# Altium footprint library Connector_PinHeader_2.54mm.PcbLib: 278 footprints (part 17 of 18)
Each footprint in its own frame and in the unit in brackets; x right, y up, seen from the top. Pads: shape width x height; smd on the part's side, far side on the other; paste and mask are expansions set on the pad; w line width, h text height; cw(c..) or ccw(c..) is an arc to the next point about the centre after c.
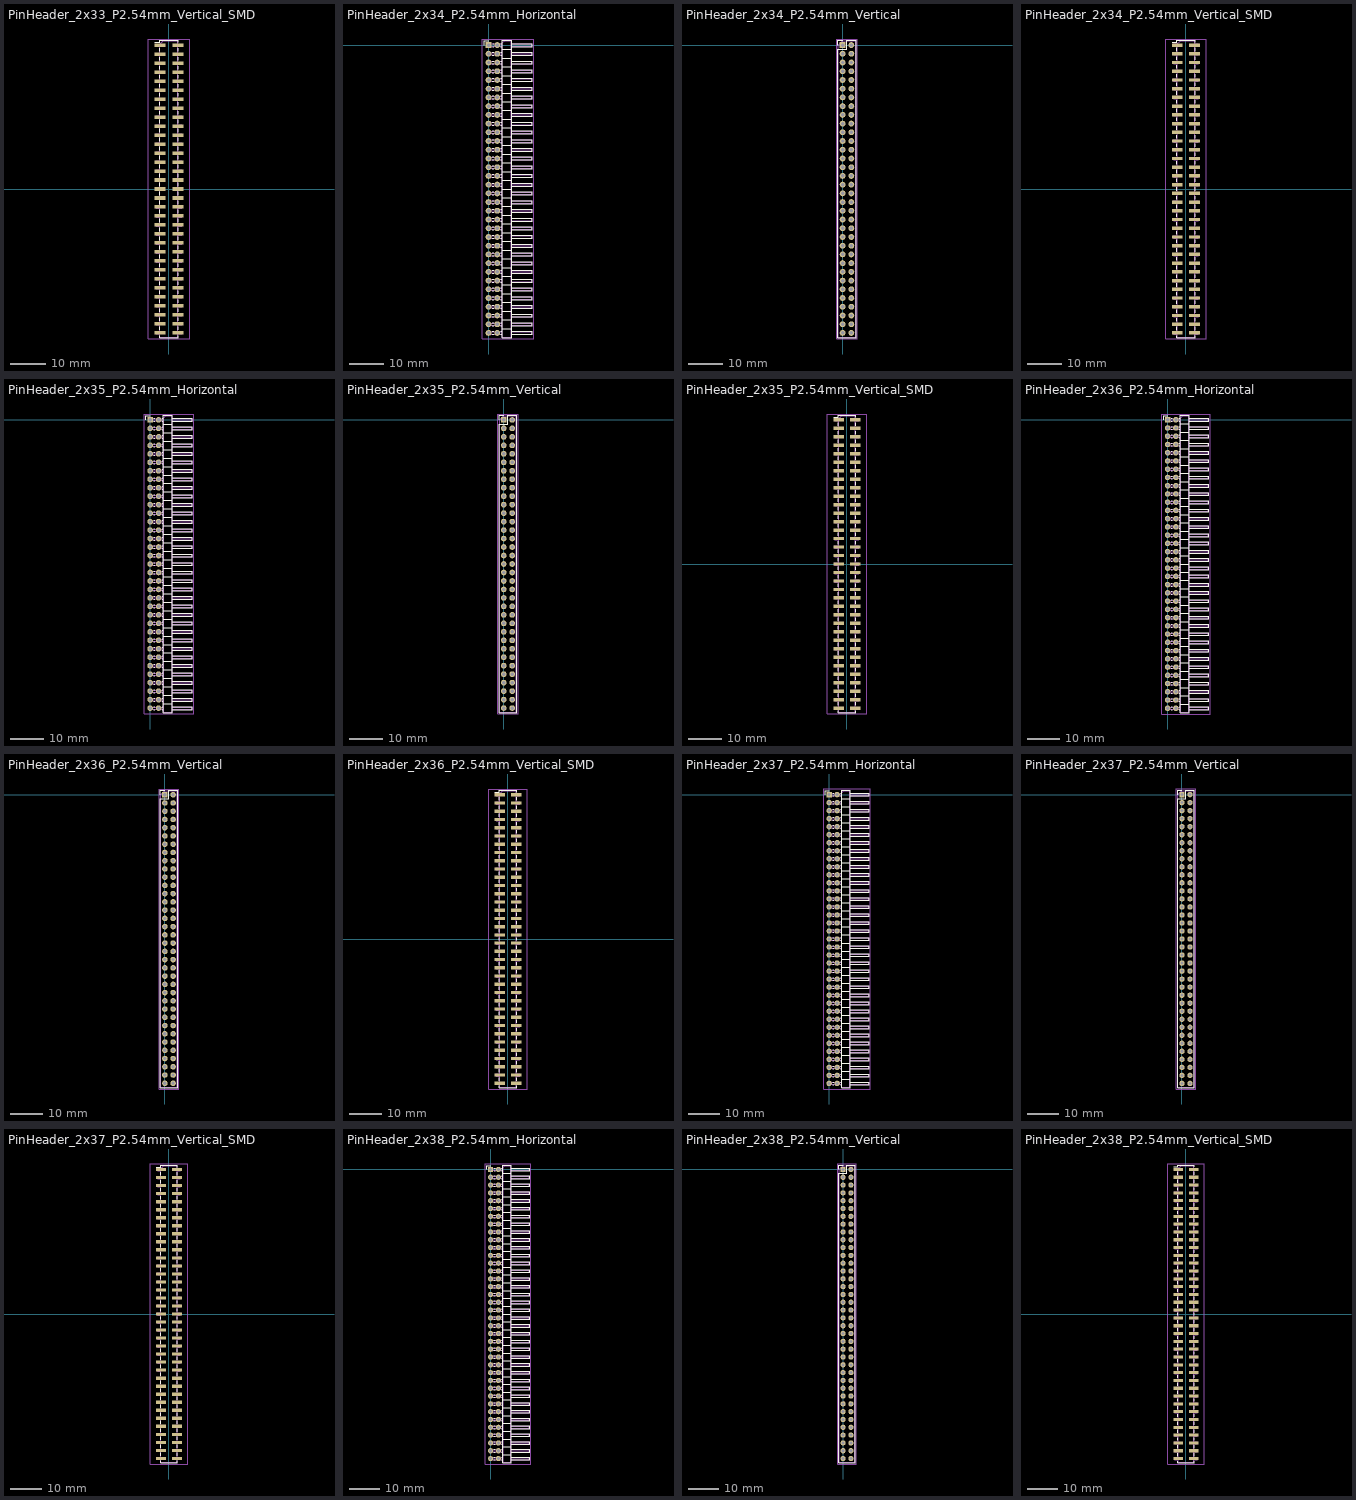
[diagram p16: the footprints below, top view; thin cyan lines are the x and y axes]

## PinHeader_2x33_P2.54mm_Vertical_SMD [mm]
pads (66):
  rect 3.15x1 smd: 1(-2.525,40.64) 2(2.525,40.64) 3(-2.525,38.1) 4(2.525,38.1) 5(-2.525,35.56) 6(2.525,35.56) 7(-2.525,33.02) 8(2.525,33.02) 9(-2.525,30.48) 10(2.525,30.48) 11(-2.525,27.94) 12(2.525,27.94) 13(-2.525,25.4) 14(2.525,25.4) 15(-2.525,22.86) 16(2.525,22.86) 17(-2.525,20.32) 18(2.525,20.32) 19(-2.525,17.78) 20(2.525,17.78) 21(-2.525,15.24) 22(2.525,15.24) 23(-2.525,12.7) 24(2.525,12.7) 25(-2.525,10.16) 26(2.525,10.16) 27(-2.525,7.62) 28(2.525,7.62) 29(-2.525,5.08) 30(2.525,5.08) 31(-2.525,2.54) 32(2.525,2.54) 33(-2.525,0) 34(2.525,0) 35(-2.525,-2.54) 36(2.525,-2.54) 37(-2.525,-5.08) 38(2.525,-5.08) 39(-2.525,-7.62) 40(2.525,-7.62) 41(-2.525,-10.16) 42(2.525,-10.16) 43(-2.525,-12.7) 44(2.525,-12.7) 45(-2.525,-15.24) 46(2.525,-15.24) 47(-2.525,-17.78) 48(2.525,-17.78) 49(-2.525,-20.32) 50(2.525,-20.32) 51(-2.525,-22.86) 52(2.525,-22.86) 53(-2.525,-25.4) 54(2.525,-25.4) 55(-2.525,-27.94) 56(2.525,-27.94) 57(-2.525,-30.48) 58(2.525,-30.48) 59(-2.525,-33.02) 60(2.525,-33.02) 61(-2.525,-35.56) 62(2.525,-35.56) 63(-2.525,-38.1) 64(2.525,-38.1) 65(-2.525,-40.64) 66(2.525,-40.64)
F.SilkS:
  lines w0.254: -4.04,41.45 -2.65,41.45 -2.65,42.02 2.65,42.02 2.65,41.45 ; -2.65,-41.45 -2.65,-42.02 2.65,-42.02 2.65,-41.45 ; -2.65,-39.83 -2.65,-38.91 ; -2.65,-37.29 -2.65,-36.37 ; -2.65,-34.75 -2.65,-33.83 ; -2.65,-32.21 -2.65,-31.29 ; -2.65,-29.67 -2.65,-28.75 ; -2.65,-27.13 -2.65,-26.21 ; -2.65,-24.59 -2.65,-23.67 ; -2.65,-22.05 -2.65,-21.13 ; -2.65,-19.51 -2.65,-18.59 ; -2.65,-16.97 -2.65,-16.05 ; -2.65,-14.43 -2.65,-13.51 ; -2.65,-11.89 -2.65,-10.97 ; -2.65,-9.35 -2.65,-8.43 ; -2.65,-6.81 -2.65,-5.89 ; -2.65,-4.27 -2.65,-3.35 ; -2.65,-1.73 -2.65,-0.81 ; -2.65,0.81 -2.65,1.73 ; -2.65,3.35 -2.65,4.27 ; -2.65,5.89 -2.65,6.81 ; -2.65,8.43 -2.65,9.35 ; -2.65,10.97 -2.65,11.89 ; -2.65,13.51 -2.65,14.43 ; -2.65,16.05 -2.65,16.97 ; -2.65,18.59 -2.65,19.51 ; -2.65,21.13 -2.65,22.05 ; -2.65,23.67 -2.65,24.59 ; -2.65,26.21 -2.65,27.13 ; -2.65,28.75 -2.65,29.67 ; -2.65,31.29 -2.65,32.21 ; -2.65,33.83 -2.65,34.75 ; -2.65,36.37 -2.65,37.29 ; -2.65,38.91 -2.65,39.83 ; 2.65,-39.83 2.65,-38.91 ; 2.65,-37.29 2.65,-36.37 ; 2.65,-34.75 2.65,-33.83 ; 2.65,-32.21 2.65,-31.29 ; 2.65,-29.67 2.65,-28.75 ; 2.65,-27.13 2.65,-26.21 ; 2.65,-24.59 2.65,-23.67 ; 2.65,-22.05 2.65,-21.13 ; 2.65,-19.51 2.65,-18.59 ; 2.65,-16.97 2.65,-16.05 ; 2.65,-14.43 2.65,-13.51 ; 2.65,-11.89 2.65,-10.97 ; 2.65,-9.35 2.65,-8.43 ; 2.65,-6.81 2.65,-5.89 ; 2.65,-4.27 2.65,-3.35 ; 2.65,-1.73 2.65,-0.81 ; 2.65,0.81 2.65,1.73 ; 2.65,3.35 2.65,4.27 ; 2.65,5.89 2.65,6.81 ; 2.65,8.43 2.65,9.35 ; 2.65,10.97 2.65,11.89 ; 2.65,13.51 2.65,14.43 ; 2.65,16.05 2.65,16.97 ; 2.65,18.59 2.65,19.51 ; 2.65,21.13 2.65,22.05 ; 2.65,23.67 2.65,24.59 ; 2.65,26.21 2.65,27.13 ; 2.65,28.75 2.65,29.67 ; 2.65,31.29 2.65,32.21 ; 2.65,33.83 2.65,34.75 ; 2.65,36.37 2.65,37.29 ; 2.65,38.91 2.65,39.83
Top Assembly:
  drawing of 203 lines, arcs and shapes, not listed
  text "'.Designator'" at 0.84,-4.047 h1
Top Courtyard:
  lines w0.254: -5.87,-42.41 5.88,-42.41 5.88,42.41 -5.87,42.41 -5.87,-42.41
Top Designator:
  text ".Designator" at -7.613,-0.508 h1.52

## PinHeader_2x34_P2.54mm_Horizontal [mm]
pads (68):
  rect 1.7x1.7 hole 1: 1(0,0)
  round 1.7 hole 1: 2(2.54,0) 3(0,-2.54) 4(2.54,-2.54) 5(0,-5.08) 6(2.54,-5.08) 7(0,-7.62) 8(2.54,-7.62) 9(0,-10.16) 10(2.54,-10.16) 11(0,-12.7) 12(2.54,-12.7) 13(0,-15.24) 14(2.54,-15.24) 15(0,-17.78) 16(2.54,-17.78) 17(0,-20.32) 18(2.54,-20.32) 19(0,-22.86) 20(2.54,-22.86) 21(0,-25.4) 22(2.54,-25.4) 23(0,-27.94) 24(2.54,-27.94) 25(0,-30.48) 26(2.54,-30.48) 27(0,-33.02) 28(2.54,-33.02) 29(0,-35.56) 30(2.54,-35.56) 31(0,-38.1) 32(2.54,-38.1) 33(0,-40.64) 34(2.54,-40.64) 35(0,-43.18) 36(2.54,-43.18) 37(0,-45.72) 38(2.54,-45.72) 39(0,-48.26) 40(2.54,-48.26) 41(0,-50.8) 42(2.54,-50.8) 43(0,-53.34) 44(2.54,-53.34) 45(0,-55.88) 46(2.54,-55.88) 47(0,-58.42) 48(2.54,-58.42) 49(0,-60.96) 50(2.54,-60.96) 51(0,-63.5) 52(2.54,-63.5) 53(0,-66.04) 54(2.54,-66.04) 55(0,-68.58) 56(2.54,-68.58) 57(0,-71.12) 58(2.54,-71.12) 59(0,-73.66) 60(2.54,-73.66) 61(0,-76.2) 62(2.54,-76.2) 63(0,-78.74) 64(2.54,-78.74) 65(0,-81.28) 66(2.54,-81.28) 67(0,-83.82) 68(2.54,-83.82)
F.SilkS:
  drawing of 278 lines, arcs and shapes, not listed
Top Assembly:
  drawing of 209 lines, arcs and shapes, not listed
  text "'.Designator'" at 6.15,-45.957 h1
Top Courtyard:
  lines w0.254: -1.77,-85.59 13.09,-85.59 13.09,1.77 -1.77,1.77 -1.77,-85.59
Top Designator:
  text ".Designator" at -1.958,-42.418 h1.52

## PinHeader_2x34_P2.54mm_Vertical [mm]
pads (68):
  rect 1.7x1.7 hole 1: 1(0,0)
  round 1.7 hole 1: 2(2.54,0) 3(0,-2.54) 4(2.54,-2.54) 5(0,-5.08) 6(2.54,-5.08) 7(0,-7.62) 8(2.54,-7.62) 9(0,-10.16) 10(2.54,-10.16) 11(0,-12.7) 12(2.54,-12.7) 13(0,-15.24) 14(2.54,-15.24) 15(0,-17.78) 16(2.54,-17.78) 17(0,-20.32) 18(2.54,-20.32) 19(0,-22.86) 20(2.54,-22.86) 21(0,-25.4) 22(2.54,-25.4) 23(0,-27.94) 24(2.54,-27.94) 25(0,-30.48) 26(2.54,-30.48) 27(0,-33.02) 28(2.54,-33.02) 29(0,-35.56) 30(2.54,-35.56) 31(0,-38.1) 32(2.54,-38.1) 33(0,-40.64) 34(2.54,-40.64) 35(0,-43.18) 36(2.54,-43.18) 37(0,-45.72) 38(2.54,-45.72) 39(0,-48.26) 40(2.54,-48.26) 41(0,-50.8) 42(2.54,-50.8) 43(0,-53.34) 44(2.54,-53.34) 45(0,-55.88) 46(2.54,-55.88) 47(0,-58.42) 48(2.54,-58.42) 49(0,-60.96) 50(2.54,-60.96) 51(0,-63.5) 52(2.54,-63.5) 53(0,-66.04) 54(2.54,-66.04) 55(0,-68.58) 56(2.54,-68.58) 57(0,-71.12) 58(2.54,-71.12) 59(0,-73.66) 60(2.54,-73.66) 61(0,-76.2) 62(2.54,-76.2) 63(0,-78.74) 64(2.54,-78.74) 65(0,-81.28) 66(2.54,-81.28) 67(0,-83.82) 68(2.54,-83.82)
F.SilkS:
  lines w0.254: -1.38,0 -1.38,1.38 0,1.38 ; -1.38,-85.2 3.92,-85.2 3.92,1.38 1.27,1.38 1.27,-1.27 -1.38,-1.27 -1.38,-85.2
Top Assembly:
  lines w0.254: -1.27,-85.09 3.81,-85.09 3.81,1.27 0,1.27 -1.27,0 -1.27,-85.09
  text "'.Designator'" at 2.11,-45.957 h1
Top Courtyard:
  lines w0.254: -1.77,-85.59 4.32,-85.59 4.32,1.77 -1.77,1.77 -1.77,-85.59
Top Designator:
  text ".Designator" at -6.343,-42.418 h1.52

## PinHeader_2x34_P2.54mm_Vertical_SMD [mm]
pads (68):
  rect 3.15x1 smd: 1(-2.525,41.91) 2(2.525,41.91) 3(-2.525,39.37) 4(2.525,39.37) 5(-2.525,36.83) 6(2.525,36.83) 7(-2.525,34.29) 8(2.525,34.29) 9(-2.525,31.75) 10(2.525,31.75) 11(-2.525,29.21) 12(2.525,29.21) 13(-2.525,26.67) 14(2.525,26.67) 15(-2.525,24.13) 16(2.525,24.13) 17(-2.525,21.59) 18(2.525,21.59) 19(-2.525,19.05) 20(2.525,19.05) 21(-2.525,16.51) 22(2.525,16.51) 23(-2.525,13.97) 24(2.525,13.97) 25(-2.525,11.43) 26(2.525,11.43) 27(-2.525,8.89) 28(2.525,8.89) 29(-2.525,6.35) 30(2.525,6.35) 31(-2.525,3.81) 32(2.525,3.81) 33(-2.525,1.27) 34(2.525,1.27) 35(-2.525,-1.27) 36(2.525,-1.27) 37(-2.525,-3.81) 38(2.525,-3.81) 39(-2.525,-6.35) 40(2.525,-6.35) 41(-2.525,-8.89) 42(2.525,-8.89) 43(-2.525,-11.43) 44(2.525,-11.43) 45(-2.525,-13.97) 46(2.525,-13.97) 47(-2.525,-16.51) 48(2.525,-16.51) 49(-2.525,-19.05) 50(2.525,-19.05) 51(-2.525,-21.59) 52(2.525,-21.59) 53(-2.525,-24.13) 54(2.525,-24.13) 55(-2.525,-26.67) 56(2.525,-26.67) 57(-2.525,-29.21) 58(2.525,-29.21) 59(-2.525,-31.75) 60(2.525,-31.75) 61(-2.525,-34.29) 62(2.525,-34.29) 63(-2.525,-36.83) 64(2.525,-36.83) 65(-2.525,-39.37) 66(2.525,-39.37) 67(-2.525,-41.91) 68(2.525,-41.91)
F.SilkS:
  lines w0.254: -4.04,42.72 -2.65,42.72 -2.65,43.29 2.65,43.29 2.65,42.72 ; -2.65,-42.72 -2.65,-43.29 2.65,-43.29 2.65,-42.72 ; -2.65,-41.1 -2.65,-40.18 ; -2.65,-38.56 -2.65,-37.64 ; -2.65,-36.02 -2.65,-35.1 ; -2.65,-33.48 -2.65,-32.56 ; -2.65,-30.94 -2.65,-30.02 ; -2.65,-28.4 -2.65,-27.48 ; -2.65,-25.86 -2.65,-24.94 ; -2.65,-23.32 -2.65,-22.4 ; -2.65,-20.78 -2.65,-19.86 ; -2.65,-18.24 -2.65,-17.32 ; -2.65,-15.7 -2.65,-14.78 ; -2.65,-13.16 -2.65,-12.24 ; -2.65,-10.62 -2.65,-9.7 ; -2.65,-8.08 -2.65,-7.16 ; -2.65,-5.54 -2.65,-4.62 ; -2.65,-3 -2.65,-2.08 ; -2.65,-0.46 -2.65,0.46 ; -2.65,2.08 -2.65,3 ; -2.65,4.62 -2.65,5.54 ; -2.65,7.16 -2.65,8.08 ; -2.65,9.7 -2.65,10.62 ; -2.65,12.24 -2.65,13.16 ; -2.65,14.78 -2.65,15.7 ; -2.65,17.32 -2.65,18.24 ; -2.65,19.86 -2.65,20.78 ; -2.65,22.4 -2.65,23.32 ; -2.65,24.94 -2.65,25.86 ; -2.65,27.48 -2.65,28.4 ; -2.65,30.02 -2.65,30.94 ; -2.65,32.56 -2.65,33.48 ; -2.65,35.1 -2.65,36.02 ; -2.65,37.64 -2.65,38.56 ; -2.65,40.18 -2.65,41.1 ; 2.65,-41.1 2.65,-40.18 ; 2.65,-38.56 2.65,-37.64 ; 2.65,-36.02 2.65,-35.1 ; 2.65,-33.48 2.65,-32.56 ; 2.65,-30.94 2.65,-30.02 ; 2.65,-28.4 2.65,-27.48 ; 2.65,-25.86 2.65,-24.94 ; 2.65,-23.32 2.65,-22.4 ; 2.65,-20.78 2.65,-19.86 ; 2.65,-18.24 2.65,-17.32 ; 2.65,-15.7 2.65,-14.78 ; 2.65,-13.16 2.65,-12.24 ; 2.65,-10.62 2.65,-9.7 ; 2.65,-8.08 2.65,-7.16 ; 2.65,-5.54 2.65,-4.62 ; 2.65,-3 2.65,-2.08 ; 2.65,-0.46 2.65,0.46 ; 2.65,2.08 2.65,3 ; 2.65,4.62 2.65,5.54 ; 2.65,7.16 2.65,8.08 ; 2.65,9.7 2.65,10.62 ; 2.65,12.24 2.65,13.16 ; 2.65,14.78 2.65,15.7 ; 2.65,17.32 2.65,18.24 ; 2.65,19.86 2.65,20.78 ; 2.65,22.4 2.65,23.32 ; 2.65,24.94 2.65,25.86 ; 2.65,27.48 2.65,28.4 ; 2.65,30.02 2.65,30.94 ; 2.65,32.56 2.65,33.48 ; 2.65,35.1 2.65,36.02 ; 2.65,37.64 2.65,38.56 ; 2.65,40.18 2.65,41.1
Top Assembly:
  drawing of 209 lines, arcs and shapes, not listed
  text "'.Designator'" at 0.84,-4.047 h1
Top Courtyard:
  lines w0.254: -5.87,-43.68 5.88,-43.68 5.88,43.68 -5.87,43.68 -5.87,-43.68
Top Designator:
  text ".Designator" at -7.613,-0.508 h1.52

## PinHeader_2x35_P2.54mm_Horizontal [mm]
pads (70):
  rect 1.7x1.7 hole 1: 1(0,0)
  round 1.7 hole 1: 2(2.54,0) 3(0,-2.54) 4(2.54,-2.54) 5(0,-5.08) 6(2.54,-5.08) 7(0,-7.62) 8(2.54,-7.62) 9(0,-10.16) 10(2.54,-10.16) 11(0,-12.7) 12(2.54,-12.7) 13(0,-15.24) 14(2.54,-15.24) 15(0,-17.78) 16(2.54,-17.78) 17(0,-20.32) 18(2.54,-20.32) 19(0,-22.86) 20(2.54,-22.86) 21(0,-25.4) 22(2.54,-25.4) 23(0,-27.94) 24(2.54,-27.94) 25(0,-30.48) 26(2.54,-30.48) 27(0,-33.02) 28(2.54,-33.02) 29(0,-35.56) 30(2.54,-35.56) 31(0,-38.1) 32(2.54,-38.1) 33(0,-40.64) 34(2.54,-40.64) 35(0,-43.18) 36(2.54,-43.18) 37(0,-45.72) 38(2.54,-45.72) 39(0,-48.26) 40(2.54,-48.26) 41(0,-50.8) 42(2.54,-50.8) 43(0,-53.34) 44(2.54,-53.34) 45(0,-55.88) 46(2.54,-55.88) 47(0,-58.42) 48(2.54,-58.42) 49(0,-60.96) 50(2.54,-60.96) 51(0,-63.5) 52(2.54,-63.5) 53(0,-66.04) 54(2.54,-66.04) 55(0,-68.58) 56(2.54,-68.58) 57(0,-71.12) 58(2.54,-71.12) 59(0,-73.66) 60(2.54,-73.66) 61(0,-76.2) 62(2.54,-76.2) 63(0,-78.74) 64(2.54,-78.74) 65(0,-81.28) 66(2.54,-81.28) 67(0,-83.82) 68(2.54,-83.82) 69(0,-86.36) 70(2.54,-86.36)
F.SilkS:
  drawing of 286 lines, arcs and shapes, not listed
Top Assembly:
  drawing of 215 lines, arcs and shapes, not listed
  text "'.Designator'" at 6.15,-47.227 h1
Top Courtyard:
  lines w0.254: -1.77,-88.13 13.09,-88.13 13.09,1.77 -1.77,1.77 -1.77,-88.13
Top Designator:
  text ".Designator" at -1.958,-43.688 h1.52

## PinHeader_2x35_P2.54mm_Vertical [mm]
pads (70):
  rect 1.7x1.7 hole 1: 1(0,0)
  round 1.7 hole 1: 2(2.54,0) 3(0,-2.54) 4(2.54,-2.54) 5(0,-5.08) 6(2.54,-5.08) 7(0,-7.62) 8(2.54,-7.62) 9(0,-10.16) 10(2.54,-10.16) 11(0,-12.7) 12(2.54,-12.7) 13(0,-15.24) 14(2.54,-15.24) 15(0,-17.78) 16(2.54,-17.78) 17(0,-20.32) 18(2.54,-20.32) 19(0,-22.86) 20(2.54,-22.86) 21(0,-25.4) 22(2.54,-25.4) 23(0,-27.94) 24(2.54,-27.94) 25(0,-30.48) 26(2.54,-30.48) 27(0,-33.02) 28(2.54,-33.02) 29(0,-35.56) 30(2.54,-35.56) 31(0,-38.1) 32(2.54,-38.1) 33(0,-40.64) 34(2.54,-40.64) 35(0,-43.18) 36(2.54,-43.18) 37(0,-45.72) 38(2.54,-45.72) 39(0,-48.26) 40(2.54,-48.26) 41(0,-50.8) 42(2.54,-50.8) 43(0,-53.34) 44(2.54,-53.34) 45(0,-55.88) 46(2.54,-55.88) 47(0,-58.42) 48(2.54,-58.42) 49(0,-60.96) 50(2.54,-60.96) 51(0,-63.5) 52(2.54,-63.5) 53(0,-66.04) 54(2.54,-66.04) 55(0,-68.58) 56(2.54,-68.58) 57(0,-71.12) 58(2.54,-71.12) 59(0,-73.66) 60(2.54,-73.66) 61(0,-76.2) 62(2.54,-76.2) 63(0,-78.74) 64(2.54,-78.74) 65(0,-81.28) 66(2.54,-81.28) 67(0,-83.82) 68(2.54,-83.82) 69(0,-86.36) 70(2.54,-86.36)
F.SilkS:
  lines w0.254: -1.38,0 -1.38,1.38 0,1.38 ; -1.38,-87.74 3.92,-87.74 3.92,1.38 1.27,1.38 1.27,-1.27 -1.38,-1.27 -1.38,-87.74
Top Assembly:
  lines w0.254: -1.27,-87.63 3.81,-87.63 3.81,1.27 0,1.27 -1.27,0 -1.27,-87.63
  text "'.Designator'" at 2.11,-47.227 h1
Top Courtyard:
  lines w0.254: -1.77,-88.13 4.32,-88.13 4.32,1.77 -1.77,1.77 -1.77,-88.13
Top Designator:
  text ".Designator" at -6.343,-43.688 h1.52

## PinHeader_2x35_P2.54mm_Vertical_SMD [mm]
pads (70):
  rect 3.15x1 smd: 1(-2.525,43.18) 2(2.525,43.18) 3(-2.525,40.64) 4(2.525,40.64) 5(-2.525,38.1) 6(2.525,38.1) 7(-2.525,35.56) 8(2.525,35.56) 9(-2.525,33.02) 10(2.525,33.02) 11(-2.525,30.48) 12(2.525,30.48) 13(-2.525,27.94) 14(2.525,27.94) 15(-2.525,25.4) 16(2.525,25.4) 17(-2.525,22.86) 18(2.525,22.86) 19(-2.525,20.32) 20(2.525,20.32) 21(-2.525,17.78) 22(2.525,17.78) 23(-2.525,15.24) 24(2.525,15.24) 25(-2.525,12.7) 26(2.525,12.7) 27(-2.525,10.16) 28(2.525,10.16) 29(-2.525,7.62) 30(2.525,7.62) 31(-2.525,5.08) 32(2.525,5.08) 33(-2.525,2.54) 34(2.525,2.54) 35(-2.525,0) 36(2.525,0) 37(-2.525,-2.54) 38(2.525,-2.54) 39(-2.525,-5.08) 40(2.525,-5.08) 41(-2.525,-7.62) 42(2.525,-7.62) 43(-2.525,-10.16) 44(2.525,-10.16) 45(-2.525,-12.7) 46(2.525,-12.7) 47(-2.525,-15.24) 48(2.525,-15.24) 49(-2.525,-17.78) 50(2.525,-17.78) 51(-2.525,-20.32) 52(2.525,-20.32) 53(-2.525,-22.86) 54(2.525,-22.86) 55(-2.525,-25.4) 56(2.525,-25.4) 57(-2.525,-27.94) 58(2.525,-27.94) 59(-2.525,-30.48) 60(2.525,-30.48) 61(-2.525,-33.02) 62(2.525,-33.02) 63(-2.525,-35.56) 64(2.525,-35.56) 65(-2.525,-38.1) 66(2.525,-38.1) 67(-2.525,-40.64) 68(2.525,-40.64) 69(-2.525,-43.18) 70(2.525,-43.18)
F.SilkS:
  lines w0.254: -4.04,43.99 -2.65,43.99 -2.65,44.56 2.65,44.56 2.65,43.99 ; -2.65,-43.99 -2.65,-44.56 2.65,-44.56 2.65,-43.99 ; -2.65,-42.37 -2.65,-41.45 ; -2.65,-39.83 -2.65,-38.91 ; -2.65,-37.29 -2.65,-36.37 ; -2.65,-34.75 -2.65,-33.83 ; -2.65,-32.21 -2.65,-31.29 ; -2.65,-29.67 -2.65,-28.75 ; -2.65,-27.13 -2.65,-26.21 ; -2.65,-24.59 -2.65,-23.67 ; -2.65,-22.05 -2.65,-21.13 ; -2.65,-19.51 -2.65,-18.59 ; -2.65,-16.97 -2.65,-16.05 ; -2.65,-14.43 -2.65,-13.51 ; -2.65,-11.89 -2.65,-10.97 ; -2.65,-9.35 -2.65,-8.43 ; -2.65,-6.81 -2.65,-5.89 ; -2.65,-4.27 -2.65,-3.35 ; -2.65,-1.73 -2.65,-0.81 ; -2.65,0.81 -2.65,1.73 ; -2.65,3.35 -2.65,4.27 ; -2.65,5.89 -2.65,6.81 ; -2.65,8.43 -2.65,9.35 ; -2.65,10.97 -2.65,11.89 ; -2.65,13.51 -2.65,14.43 ; -2.65,16.05 -2.65,16.97 ; -2.65,18.59 -2.65,19.51 ; -2.65,21.13 -2.65,22.05 ; -2.65,23.67 -2.65,24.59 ; -2.65,26.21 -2.65,27.13 ; -2.65,28.75 -2.65,29.67 ; -2.65,31.29 -2.65,32.21 ; -2.65,33.83 -2.65,34.75 ; -2.65,36.37 -2.65,37.29 ; -2.65,38.91 -2.65,39.83 ; -2.65,41.45 -2.65,42.37 ; 2.65,-42.37 2.65,-41.45 ; 2.65,-39.83 2.65,-38.91 ; 2.65,-37.29 2.65,-36.37 ; 2.65,-34.75 2.65,-33.83 ; 2.65,-32.21 2.65,-31.29 ; 2.65,-29.67 2.65,-28.75 ; 2.65,-27.13 2.65,-26.21 ; 2.65,-24.59 2.65,-23.67 ; 2.65,-22.05 2.65,-21.13 ; 2.65,-19.51 2.65,-18.59 ; 2.65,-16.97 2.65,-16.05 ; 2.65,-14.43 2.65,-13.51 ; 2.65,-11.89 2.65,-10.97 ; 2.65,-9.35 2.65,-8.43 ; 2.65,-6.81 2.65,-5.89 ; 2.65,-4.27 2.65,-3.35 ; 2.65,-1.73 2.65,-0.81 ; 2.65,0.81 2.65,1.73 ; 2.65,3.35 2.65,4.27 ; 2.65,5.89 2.65,6.81 ; 2.65,8.43 2.65,9.35 ; 2.65,10.97 2.65,11.89 ; 2.65,13.51 2.65,14.43 ; 2.65,16.05 2.65,16.97 ; 2.65,18.59 2.65,19.51 ; 2.65,21.13 2.65,22.05 ; 2.65,23.67 2.65,24.59 ; 2.65,26.21 2.65,27.13 ; 2.65,28.75 2.65,29.67 ; 2.65,31.29 2.65,32.21 ; 2.65,33.83 2.65,34.75 ; 2.65,36.37 2.65,37.29 ; 2.65,38.91 2.65,39.83 ; 2.65,41.45 2.65,42.37
Top Assembly:
  drawing of 215 lines, arcs and shapes, not listed
  text "'.Designator'" at 0.84,-4.047 h1
Top Courtyard:
  lines w0.254: -5.87,-44.95 5.88,-44.95 5.88,44.95 -5.87,44.95 -5.87,-44.95
Top Designator:
  text ".Designator" at -7.613,-0.508 h1.52

## PinHeader_2x36_P2.54mm_Horizontal [mm]
pads (72):
  rect 1.7x1.7 hole 1: 1(0,0)
  round 1.7 hole 1: 2(2.54,0) 3(0,-2.54) 4(2.54,-2.54) 5(0,-5.08) 6(2.54,-5.08) 7(0,-7.62) 8(2.54,-7.62) 9(0,-10.16) 10(2.54,-10.16) 11(0,-12.7) 12(2.54,-12.7) 13(0,-15.24) 14(2.54,-15.24) 15(0,-17.78) 16(2.54,-17.78) 17(0,-20.32) 18(2.54,-20.32) 19(0,-22.86) 20(2.54,-22.86) 21(0,-25.4) 22(2.54,-25.4) 23(0,-27.94) 24(2.54,-27.94) 25(0,-30.48) 26(2.54,-30.48) 27(0,-33.02) 28(2.54,-33.02) 29(0,-35.56) 30(2.54,-35.56) 31(0,-38.1) 32(2.54,-38.1) 33(0,-40.64) 34(2.54,-40.64) 35(0,-43.18) 36(2.54,-43.18) 37(0,-45.72) 38(2.54,-45.72) 39(0,-48.26) 40(2.54,-48.26) 41(0,-50.8) 42(2.54,-50.8) 43(0,-53.34) 44(2.54,-53.34) 45(0,-55.88) 46(2.54,-55.88) 47(0,-58.42) 48(2.54,-58.42) 49(0,-60.96) 50(2.54,-60.96) 51(0,-63.5) 52(2.54,-63.5) 53(0,-66.04) 54(2.54,-66.04) 55(0,-68.58) 56(2.54,-68.58) 57(0,-71.12) 58(2.54,-71.12) 59(0,-73.66) 60(2.54,-73.66) 61(0,-76.2) 62(2.54,-76.2) 63(0,-78.74) 64(2.54,-78.74) 65(0,-81.28) 66(2.54,-81.28) 67(0,-83.82) 68(2.54,-83.82) 69(0,-86.36) 70(2.54,-86.36) 71(0,-88.9) 72(2.54,-88.9)
F.SilkS:
  drawing of 294 lines, arcs and shapes, not listed
Top Assembly:
  drawing of 221 lines, arcs and shapes, not listed
  text "'.Designator'" at 6.15,-48.497 h1
Top Courtyard:
  lines w0.254: -1.77,-90.67 13.09,-90.67 13.09,1.77 -1.77,1.77 -1.77,-90.67
Top Designator:
  text ".Designator" at -1.958,-44.958 h1.52

## PinHeader_2x36_P2.54mm_Vertical [mm]
pads (72):
  rect 1.7x1.7 hole 1: 1(0,0)
  round 1.7 hole 1: 2(2.54,0) 3(0,-2.54) 4(2.54,-2.54) 5(0,-5.08) 6(2.54,-5.08) 7(0,-7.62) 8(2.54,-7.62) 9(0,-10.16) 10(2.54,-10.16) 11(0,-12.7) 12(2.54,-12.7) 13(0,-15.24) 14(2.54,-15.24) 15(0,-17.78) 16(2.54,-17.78) 17(0,-20.32) 18(2.54,-20.32) 19(0,-22.86) 20(2.54,-22.86) 21(0,-25.4) 22(2.54,-25.4) 23(0,-27.94) 24(2.54,-27.94) 25(0,-30.48) 26(2.54,-30.48) 27(0,-33.02) 28(2.54,-33.02) 29(0,-35.56) 30(2.54,-35.56) 31(0,-38.1) 32(2.54,-38.1) 33(0,-40.64) 34(2.54,-40.64) 35(0,-43.18) 36(2.54,-43.18) 37(0,-45.72) 38(2.54,-45.72) 39(0,-48.26) 40(2.54,-48.26) 41(0,-50.8) 42(2.54,-50.8) 43(0,-53.34) 44(2.54,-53.34) 45(0,-55.88) 46(2.54,-55.88) 47(0,-58.42) 48(2.54,-58.42) 49(0,-60.96) 50(2.54,-60.96) 51(0,-63.5) 52(2.54,-63.5) 53(0,-66.04) 54(2.54,-66.04) 55(0,-68.58) 56(2.54,-68.58) 57(0,-71.12) 58(2.54,-71.12) 59(0,-73.66) 60(2.54,-73.66) 61(0,-76.2) 62(2.54,-76.2) 63(0,-78.74) 64(2.54,-78.74) 65(0,-81.28) 66(2.54,-81.28) 67(0,-83.82) 68(2.54,-83.82) 69(0,-86.36) 70(2.54,-86.36) 71(0,-88.9) 72(2.54,-88.9)
F.SilkS:
  lines w0.254: -1.38,0 -1.38,1.38 0,1.38 ; -1.38,-90.28 3.92,-90.28 3.92,1.38 1.27,1.38 1.27,-1.27 -1.38,-1.27 -1.38,-90.28
Top Assembly:
  lines w0.254: -1.27,-90.17 3.81,-90.17 3.81,1.27 0,1.27 -1.27,0 -1.27,-90.17
  text "'.Designator'" at 2.11,-48.497 h1
Top Courtyard:
  lines w0.254: -1.77,-90.67 4.32,-90.67 4.32,1.77 -1.77,1.77 -1.77,-90.67
Top Designator:
  text ".Designator" at -6.343,-44.958 h1.52

## PinHeader_2x36_P2.54mm_Vertical_SMD [mm]
pads (72):
  rect 3.15x1 smd: 1(-2.525,44.45) 2(2.525,44.45) 3(-2.525,41.91) 4(2.525,41.91) 5(-2.525,39.37) 6(2.525,39.37) 7(-2.525,36.83) 8(2.525,36.83) 9(-2.525,34.29) 10(2.525,34.29) 11(-2.525,31.75) 12(2.525,31.75) 13(-2.525,29.21) 14(2.525,29.21) 15(-2.525,26.67) 16(2.525,26.67) 17(-2.525,24.13) 18(2.525,24.13) 19(-2.525,21.59) 20(2.525,21.59) 21(-2.525,19.05) 22(2.525,19.05) 23(-2.525,16.51) 24(2.525,16.51) 25(-2.525,13.97) 26(2.525,13.97) 27(-2.525,11.43) 28(2.525,11.43) 29(-2.525,8.89) 30(2.525,8.89) 31(-2.525,6.35) 32(2.525,6.35) 33(-2.525,3.81) 34(2.525,3.81) 35(-2.525,1.27) 36(2.525,1.27) 37(-2.525,-1.27) 38(2.525,-1.27) 39(-2.525,-3.81) 40(2.525,-3.81) 41(-2.525,-6.35) 42(2.525,-6.35) 43(-2.525,-8.89) 44(2.525,-8.89) 45(-2.525,-11.43) 46(2.525,-11.43) 47(-2.525,-13.97) 48(2.525,-13.97) 49(-2.525,-16.51) 50(2.525,-16.51) 51(-2.525,-19.05) 52(2.525,-19.05) 53(-2.525,-21.59) 54(2.525,-21.59) 55(-2.525,-24.13) 56(2.525,-24.13) 57(-2.525,-26.67) 58(2.525,-26.67) 59(-2.525,-29.21) 60(2.525,-29.21) 61(-2.525,-31.75) 62(2.525,-31.75) 63(-2.525,-34.29) 64(2.525,-34.29) 65(-2.525,-36.83) 66(2.525,-36.83) 67(-2.525,-39.37) 68(2.525,-39.37) 69(-2.525,-41.91) 70(2.525,-41.91) 71(-2.525,-44.45) 72(2.525,-44.45)
F.SilkS:
  lines w0.254: -4.04,45.26 -2.65,45.26 -2.65,45.83 2.65,45.83 2.65,45.26 ; -2.65,-45.26 -2.65,-45.83 2.65,-45.83 2.65,-45.26 ; -2.65,-43.64 -2.65,-42.72 ; -2.65,-41.1 -2.65,-40.18 ; -2.65,-38.56 -2.65,-37.64 ; -2.65,-36.02 -2.65,-35.1 ; -2.65,-33.48 -2.65,-32.56 ; -2.65,-30.94 -2.65,-30.02 ; -2.65,-28.4 -2.65,-27.48 ; -2.65,-25.86 -2.65,-24.94 ; -2.65,-23.32 -2.65,-22.4 ; -2.65,-20.78 -2.65,-19.86 ; -2.65,-18.24 -2.65,-17.32 ; -2.65,-15.7 -2.65,-14.78 ; -2.65,-13.16 -2.65,-12.24 ; -2.65,-10.62 -2.65,-9.7 ; -2.65,-8.08 -2.65,-7.16 ; -2.65,-5.54 -2.65,-4.62 ; -2.65,-3 -2.65,-2.08 ; -2.65,-0.46 -2.65,0.46 ; -2.65,2.08 -2.65,3 ; -2.65,4.62 -2.65,5.54 ; -2.65,7.16 -2.65,8.08 ; -2.65,9.7 -2.65,10.62 ; -2.65,12.24 -2.65,13.16 ; -2.65,14.78 -2.65,15.7 ; -2.65,17.32 -2.65,18.24 ; -2.65,19.86 -2.65,20.78 ; -2.65,22.4 -2.65,23.32 ; -2.65,24.94 -2.65,25.86 ; -2.65,27.48 -2.65,28.4 ; -2.65,30.02 -2.65,30.94 ; -2.65,32.56 -2.65,33.48 ; -2.65,35.1 -2.65,36.02 ; -2.65,37.64 -2.65,38.56 ; -2.65,40.18 -2.65,41.1 ; -2.65,42.72 -2.65,43.64 ; 2.65,-43.64 2.65,-42.72 ; 2.65,-41.1 2.65,-40.18 ; 2.65,-38.56 2.65,-37.64 ; 2.65,-36.02 2.65,-35.1 ; 2.65,-33.48 2.65,-32.56 ; 2.65,-30.94 2.65,-30.02 ; 2.65,-28.4 2.65,-27.48 ; 2.65,-25.86 2.65,-24.94 ; 2.65,-23.32 2.65,-22.4 ; 2.65,-20.78 2.65,-19.86 ; 2.65,-18.24 2.65,-17.32 ; 2.65,-15.7 2.65,-14.78 ; 2.65,-13.16 2.65,-12.24 ; 2.65,-10.62 2.65,-9.7 ; 2.65,-8.08 2.65,-7.16 ; 2.65,-5.54 2.65,-4.62 ; 2.65,-3 2.65,-2.08 ; 2.65,-0.46 2.65,0.46 ; 2.65,2.08 2.65,3 ; 2.65,4.62 2.65,5.54 ; 2.65,7.16 2.65,8.08 ; 2.65,9.7 2.65,10.62 ; 2.65,12.24 2.65,13.16 ; 2.65,14.78 2.65,15.7 ; 2.65,17.32 2.65,18.24 ; 2.65,19.86 2.65,20.78 ; 2.65,22.4 2.65,23.32 ; 2.65,24.94 2.65,25.86 ; 2.65,27.48 2.65,28.4 ; 2.65,30.02 2.65,30.94 ; 2.65,32.56 2.65,33.48 ; 2.65,35.1 2.65,36.02 ; 2.65,37.64 2.65,38.56 ; 2.65,40.18 2.65,41.1 ; 2.65,42.72 2.65,43.64
Top Assembly:
  drawing of 221 lines, arcs and shapes, not listed
  text "'.Designator'" at 0.84,-4.047 h1
Top Courtyard:
  lines w0.254: -5.87,-46.22 5.88,-46.22 5.88,46.22 -5.87,46.22 -5.87,-46.22
Top Designator:
  text ".Designator" at -7.613,-0.508 h1.52

## PinHeader_2x37_P2.54mm_Horizontal [mm]
pads (74):
  rect 1.7x1.7 hole 1: 1(0,0)
  round 1.7 hole 1: 2(2.54,0) 3(0,-2.54) 4(2.54,-2.54) 5(0,-5.08) 6(2.54,-5.08) 7(0,-7.62) 8(2.54,-7.62) 9(0,-10.16) 10(2.54,-10.16) 11(0,-12.7) 12(2.54,-12.7) 13(0,-15.24) 14(2.54,-15.24) 15(0,-17.78) 16(2.54,-17.78) 17(0,-20.32) 18(2.54,-20.32) 19(0,-22.86) 20(2.54,-22.86) 21(0,-25.4) 22(2.54,-25.4) 23(0,-27.94) 24(2.54,-27.94) 25(0,-30.48) 26(2.54,-30.48) 27(0,-33.02) 28(2.54,-33.02) 29(0,-35.56) 30(2.54,-35.56) 31(0,-38.1) 32(2.54,-38.1) 33(0,-40.64) 34(2.54,-40.64) 35(0,-43.18) 36(2.54,-43.18) 37(0,-45.72) 38(2.54,-45.72) 39(0,-48.26) 40(2.54,-48.26) 41(0,-50.8) 42(2.54,-50.8) 43(0,-53.34) 44(2.54,-53.34) 45(0,-55.88) 46(2.54,-55.88) 47(0,-58.42) 48(2.54,-58.42) 49(0,-60.96) 50(2.54,-60.96) 51(0,-63.5) 52(2.54,-63.5) 53(0,-66.04) 54(2.54,-66.04) 55(0,-68.58) 56(2.54,-68.58) 57(0,-71.12) 58(2.54,-71.12) 59(0,-73.66) 60(2.54,-73.66) 61(0,-76.2) 62(2.54,-76.2) 63(0,-78.74) 64(2.54,-78.74) 65(0,-81.28) 66(2.54,-81.28) 67(0,-83.82) 68(2.54,-83.82) 69(0,-86.36) 70(2.54,-86.36) 71(0,-88.9) 72(2.54,-88.9) 73(0,-91.44) 74(2.54,-91.44)
F.SilkS:
  drawing of 302 lines, arcs and shapes, not listed
Top Assembly:
  drawing of 227 lines, arcs and shapes, not listed
  text "'.Designator'" at 6.15,-49.767 h1
Top Courtyard:
  lines w0.254: -1.77,-93.21 13.09,-93.21 13.09,1.77 -1.77,1.77 -1.77,-93.21
Top Designator:
  text ".Designator" at -1.958,-46.228 h1.52

## PinHeader_2x37_P2.54mm_Vertical [mm]
pads (74):
  rect 1.7x1.7 hole 1: 1(0,0)
  round 1.7 hole 1: 2(2.54,0) 3(0,-2.54) 4(2.54,-2.54) 5(0,-5.08) 6(2.54,-5.08) 7(0,-7.62) 8(2.54,-7.62) 9(0,-10.16) 10(2.54,-10.16) 11(0,-12.7) 12(2.54,-12.7) 13(0,-15.24) 14(2.54,-15.24) 15(0,-17.78) 16(2.54,-17.78) 17(0,-20.32) 18(2.54,-20.32) 19(0,-22.86) 20(2.54,-22.86) 21(0,-25.4) 22(2.54,-25.4) 23(0,-27.94) 24(2.54,-27.94) 25(0,-30.48) 26(2.54,-30.48) 27(0,-33.02) 28(2.54,-33.02) 29(0,-35.56) 30(2.54,-35.56) 31(0,-38.1) 32(2.54,-38.1) 33(0,-40.64) 34(2.54,-40.64) 35(0,-43.18) 36(2.54,-43.18) 37(0,-45.72) 38(2.54,-45.72) 39(0,-48.26) 40(2.54,-48.26) 41(0,-50.8) 42(2.54,-50.8) 43(0,-53.34) 44(2.54,-53.34) 45(0,-55.88) 46(2.54,-55.88) 47(0,-58.42) 48(2.54,-58.42) 49(0,-60.96) 50(2.54,-60.96) 51(0,-63.5) 52(2.54,-63.5) 53(0,-66.04) 54(2.54,-66.04) 55(0,-68.58) 56(2.54,-68.58) 57(0,-71.12) 58(2.54,-71.12) 59(0,-73.66) 60(2.54,-73.66) 61(0,-76.2) 62(2.54,-76.2) 63(0,-78.74) 64(2.54,-78.74) 65(0,-81.28) 66(2.54,-81.28) 67(0,-83.82) 68(2.54,-83.82) 69(0,-86.36) 70(2.54,-86.36) 71(0,-88.9) 72(2.54,-88.9) 73(0,-91.44) 74(2.54,-91.44)
F.SilkS:
  lines w0.254: -1.38,0 -1.38,1.38 0,1.38 ; -1.38,-92.82 3.92,-92.82 3.92,1.38 1.27,1.38 1.27,-1.27 -1.38,-1.27 -1.38,-92.82
Top Assembly:
  lines w0.254: -1.27,-92.71 3.81,-92.71 3.81,1.27 0,1.27 -1.27,0 -1.27,-92.71
  text "'.Designator'" at 2.11,-49.767 h1
Top Courtyard:
  lines w0.254: -1.77,-93.21 4.32,-93.21 4.32,1.77 -1.77,1.77 -1.77,-93.21
Top Designator:
  text ".Designator" at -6.343,-46.228 h1.52

## PinHeader_2x37_P2.54mm_Vertical_SMD [mm]
pads (74):
  rect 3.15x1 smd: 1(-2.525,45.72) 2(2.525,45.72) 3(-2.525,43.18) 4(2.525,43.18) 5(-2.525,40.64) 6(2.525,40.64) 7(-2.525,38.1) 8(2.525,38.1) 9(-2.525,35.56) 10(2.525,35.56) 11(-2.525,33.02) 12(2.525,33.02) 13(-2.525,30.48) 14(2.525,30.48) 15(-2.525,27.94) 16(2.525,27.94) 17(-2.525,25.4) 18(2.525,25.4) 19(-2.525,22.86) 20(2.525,22.86) 21(-2.525,20.32) 22(2.525,20.32) 23(-2.525,17.78) 24(2.525,17.78) 25(-2.525,15.24) 26(2.525,15.24) 27(-2.525,12.7) 28(2.525,12.7) 29(-2.525,10.16) 30(2.525,10.16) 31(-2.525,7.62) 32(2.525,7.62) 33(-2.525,5.08) 34(2.525,5.08) 35(-2.525,2.54) 36(2.525,2.54) 37(-2.525,0) 38(2.525,0) 39(-2.525,-2.54) 40(2.525,-2.54) 41(-2.525,-5.08) 42(2.525,-5.08) 43(-2.525,-7.62) 44(2.525,-7.62) 45(-2.525,-10.16) 46(2.525,-10.16) 47(-2.525,-12.7) 48(2.525,-12.7) 49(-2.525,-15.24) 50(2.525,-15.24) 51(-2.525,-17.78) 52(2.525,-17.78) 53(-2.525,-20.32) 54(2.525,-20.32) 55(-2.525,-22.86) 56(2.525,-22.86) 57(-2.525,-25.4) 58(2.525,-25.4) 59(-2.525,-27.94) 60(2.525,-27.94) 61(-2.525,-30.48) 62(2.525,-30.48) 63(-2.525,-33.02) 64(2.525,-33.02) 65(-2.525,-35.56) 66(2.525,-35.56) 67(-2.525,-38.1) 68(2.525,-38.1) 69(-2.525,-40.64) 70(2.525,-40.64) 71(-2.525,-43.18) 72(2.525,-43.18) 73(-2.525,-45.72) 74(2.525,-45.72)
F.SilkS:
  lines w0.254: -4.04,46.53 -2.65,46.53 -2.65,47.1 2.65,47.1 2.65,46.53 ; -2.65,-46.53 -2.65,-47.1 2.65,-47.1 2.65,-46.53 ; -2.65,-44.91 -2.65,-43.99 ; -2.65,-42.37 -2.65,-41.45 ; -2.65,-39.83 -2.65,-38.91 ; -2.65,-37.29 -2.65,-36.37 ; -2.65,-34.75 -2.65,-33.83 ; -2.65,-32.21 -2.65,-31.29 ; -2.65,-29.67 -2.65,-28.75 ; -2.65,-27.13 -2.65,-26.21 ; -2.65,-24.59 -2.65,-23.67 ; -2.65,-22.05 -2.65,-21.13 ; -2.65,-19.51 -2.65,-18.59 ; -2.65,-16.97 -2.65,-16.05 ; -2.65,-14.43 -2.65,-13.51 ; -2.65,-11.89 -2.65,-10.97 ; -2.65,-9.35 -2.65,-8.43 ; -2.65,-6.81 -2.65,-5.89 ; -2.65,-4.27 -2.65,-3.35 ; -2.65,-1.73 -2.65,-0.81 ; -2.65,0.81 -2.65,1.73 ; -2.65,3.35 -2.65,4.27 ; -2.65,5.89 -2.65,6.81 ; -2.65,8.43 -2.65,9.35 ; -2.65,10.97 -2.65,11.89 ; -2.65,13.51 -2.65,14.43 ; -2.65,16.05 -2.65,16.97 ; -2.65,18.59 -2.65,19.51 ; -2.65,21.13 -2.65,22.05 ; -2.65,23.67 -2.65,24.59 ; -2.65,26.21 -2.65,27.13 ; -2.65,28.75 -2.65,29.67 ; -2.65,31.29 -2.65,32.21 ; -2.65,33.83 -2.65,34.75 ; -2.65,36.37 -2.65,37.29 ; -2.65,38.91 -2.65,39.83 ; -2.65,41.45 -2.65,42.37 ; -2.65,43.99 -2.65,44.91 ; 2.65,-44.91 2.65,-43.99 ; 2.65,-42.37 2.65,-41.45 ; 2.65,-39.83 2.65,-38.91 ; 2.65,-37.29 2.65,-36.37 ; 2.65,-34.75 2.65,-33.83 ; 2.65,-32.21 2.65,-31.29 ; 2.65,-29.67 2.65,-28.75 ; 2.65,-27.13 2.65,-26.21 ; 2.65,-24.59 2.65,-23.67 ; 2.65,-22.05 2.65,-21.13 ; 2.65,-19.51 2.65,-18.59 ; 2.65,-16.97 2.65,-16.05 ; 2.65,-14.43 2.65,-13.51 ; 2.65,-11.89 2.65,-10.97 ; 2.65,-9.35 2.65,-8.43 ; 2.65,-6.81 2.65,-5.89 ; 2.65,-4.27 2.65,-3.35 ; 2.65,-1.73 2.65,-0.81 ; 2.65,0.81 2.65,1.73 ; 2.65,3.35 2.65,4.27 ; 2.65,5.89 2.65,6.81 ; 2.65,8.43 2.65,9.35 ; 2.65,10.97 2.65,11.89 ; 2.65,13.51 2.65,14.43 ; 2.65,16.05 2.65,16.97 ; 2.65,18.59 2.65,19.51 ; 2.65,21.13 2.65,22.05 ; 2.65,23.67 2.65,24.59 ; 2.65,26.21 2.65,27.13 ; 2.65,28.75 2.65,29.67 ; 2.65,31.29 2.65,32.21 ; 2.65,33.83 2.65,34.75 ; 2.65,36.37 2.65,37.29 ; 2.65,38.91 2.65,39.83 ; 2.65,41.45 2.65,42.37 ; 2.65,43.99 2.65,44.91
Top Assembly:
  drawing of 227 lines, arcs and shapes, not listed
  text "'.Designator'" at 0.84,-4.047 h1
Top Courtyard:
  lines w0.254: -5.87,-47.49 5.88,-47.49 5.88,47.49 -5.87,47.49 -5.87,-47.49
Top Designator:
  text ".Designator" at -7.613,-0.508 h1.52

## PinHeader_2x38_P2.54mm_Horizontal [mm]
pads (76):
  rect 1.7x1.7 hole 1: 1(0,0)
  round 1.7 hole 1: 2(2.54,0) 3(0,-2.54) 4(2.54,-2.54) 5(0,-5.08) 6(2.54,-5.08) 7(0,-7.62) 8(2.54,-7.62) 9(0,-10.16) 10(2.54,-10.16) 11(0,-12.7) 12(2.54,-12.7) 13(0,-15.24) 14(2.54,-15.24) 15(0,-17.78) 16(2.54,-17.78) 17(0,-20.32) 18(2.54,-20.32) 19(0,-22.86) 20(2.54,-22.86) 21(0,-25.4) 22(2.54,-25.4) 23(0,-27.94) 24(2.54,-27.94) 25(0,-30.48) 26(2.54,-30.48) 27(0,-33.02) 28(2.54,-33.02) 29(0,-35.56) 30(2.54,-35.56) 31(0,-38.1) 32(2.54,-38.1) 33(0,-40.64) 34(2.54,-40.64) 35(0,-43.18) 36(2.54,-43.18) 37(0,-45.72) 38(2.54,-45.72) 39(0,-48.26) 40(2.54,-48.26) 41(0,-50.8) 42(2.54,-50.8) 43(0,-53.34) 44(2.54,-53.34) 45(0,-55.88) 46(2.54,-55.88) 47(0,-58.42) 48(2.54,-58.42) 49(0,-60.96) 50(2.54,-60.96) 51(0,-63.5) 52(2.54,-63.5) 53(0,-66.04) 54(2.54,-66.04) 55(0,-68.58) 56(2.54,-68.58) 57(0,-71.12) 58(2.54,-71.12) 59(0,-73.66) 60(2.54,-73.66) 61(0,-76.2) 62(2.54,-76.2) 63(0,-78.74) 64(2.54,-78.74) 65(0,-81.28) 66(2.54,-81.28) 67(0,-83.82) 68(2.54,-83.82) 69(0,-86.36) 70(2.54,-86.36) 71(0,-88.9) 72(2.54,-88.9) 73(0,-91.44) 74(2.54,-91.44) 75(0,-93.98) 76(2.54,-93.98)
F.SilkS:
  drawing of 310 lines, arcs and shapes, not listed
Top Assembly:
  drawing of 233 lines, arcs and shapes, not listed
  text "'.Designator'" at 6.15,-51.037 h1
Top Courtyard:
  lines w0.254: -1.77,-95.75 13.09,-95.75 13.09,1.77 -1.77,1.77 -1.77,-95.75
Top Designator:
  text ".Designator" at -1.958,-47.498 h1.52

## PinHeader_2x38_P2.54mm_Vertical [mm]
pads (76):
  rect 1.7x1.7 hole 1: 1(0,0)
  round 1.7 hole 1: 2(2.54,0) 3(0,-2.54) 4(2.54,-2.54) 5(0,-5.08) 6(2.54,-5.08) 7(0,-7.62) 8(2.54,-7.62) 9(0,-10.16) 10(2.54,-10.16) 11(0,-12.7) 12(2.54,-12.7) 13(0,-15.24) 14(2.54,-15.24) 15(0,-17.78) 16(2.54,-17.78) 17(0,-20.32) 18(2.54,-20.32) 19(0,-22.86) 20(2.54,-22.86) 21(0,-25.4) 22(2.54,-25.4) 23(0,-27.94) 24(2.54,-27.94) 25(0,-30.48) 26(2.54,-30.48) 27(0,-33.02) 28(2.54,-33.02) 29(0,-35.56) 30(2.54,-35.56) 31(0,-38.1) 32(2.54,-38.1) 33(0,-40.64) 34(2.54,-40.64) 35(0,-43.18) 36(2.54,-43.18) 37(0,-45.72) 38(2.54,-45.72) 39(0,-48.26) 40(2.54,-48.26) 41(0,-50.8) 42(2.54,-50.8) 43(0,-53.34) 44(2.54,-53.34) 45(0,-55.88) 46(2.54,-55.88) 47(0,-58.42) 48(2.54,-58.42) 49(0,-60.96) 50(2.54,-60.96) 51(0,-63.5) 52(2.54,-63.5) 53(0,-66.04) 54(2.54,-66.04) 55(0,-68.58) 56(2.54,-68.58) 57(0,-71.12) 58(2.54,-71.12) 59(0,-73.66) 60(2.54,-73.66) 61(0,-76.2) 62(2.54,-76.2) 63(0,-78.74) 64(2.54,-78.74) 65(0,-81.28) 66(2.54,-81.28) 67(0,-83.82) 68(2.54,-83.82) 69(0,-86.36) 70(2.54,-86.36) 71(0,-88.9) 72(2.54,-88.9) 73(0,-91.44) 74(2.54,-91.44) 75(0,-93.98) 76(2.54,-93.98)
F.SilkS:
  lines w0.254: -1.38,0 -1.38,1.38 0,1.38 ; -1.38,-95.36 3.92,-95.36 3.92,1.38 1.27,1.38 1.27,-1.27 -1.38,-1.27 -1.38,-95.36
Top Assembly:
  lines w0.254: -1.27,-95.25 3.81,-95.25 3.81,1.27 0,1.27 -1.27,0 -1.27,-95.25
  text "'.Designator'" at 2.11,-51.037 h1
Top Courtyard:
  lines w0.254: -1.77,-95.75 4.32,-95.75 4.32,1.77 -1.77,1.77 -1.77,-95.75
Top Designator:
  text ".Designator" at -6.343,-47.498 h1.52

## PinHeader_2x38_P2.54mm_Vertical_SMD [mm]
pads (76):
  rect 3.15x1 smd: 1(-2.525,46.99) 2(2.525,46.99) 3(-2.525,44.45) 4(2.525,44.45) 5(-2.525,41.91) 6(2.525,41.91) 7(-2.525,39.37) 8(2.525,39.37) 9(-2.525,36.83) 10(2.525,36.83) 11(-2.525,34.29) 12(2.525,34.29) 13(-2.525,31.75) 14(2.525,31.75) 15(-2.525,29.21) 16(2.525,29.21) 17(-2.525,26.67) 18(2.525,26.67) 19(-2.525,24.13) 20(2.525,24.13) 21(-2.525,21.59) 22(2.525,21.59) 23(-2.525,19.05) 24(2.525,19.05) 25(-2.525,16.51) 26(2.525,16.51) 27(-2.525,13.97) 28(2.525,13.97) 29(-2.525,11.43) 30(2.525,11.43) 31(-2.525,8.89) 32(2.525,8.89) 33(-2.525,6.35) 34(2.525,6.35) 35(-2.525,3.81) 36(2.525,3.81) 37(-2.525,1.27) 38(2.525,1.27) 39(-2.525,-1.27) 40(2.525,-1.27) 41(-2.525,-3.81) 42(2.525,-3.81) 43(-2.525,-6.35) 44(2.525,-6.35) 45(-2.525,-8.89) 46(2.525,-8.89) 47(-2.525,-11.43) 48(2.525,-11.43) 49(-2.525,-13.97) 50(2.525,-13.97) 51(-2.525,-16.51) 52(2.525,-16.51) 53(-2.525,-19.05) 54(2.525,-19.05) 55(-2.525,-21.59) 56(2.525,-21.59) 57(-2.525,-24.13) 58(2.525,-24.13) 59(-2.525,-26.67) 60(2.525,-26.67) 61(-2.525,-29.21) 62(2.525,-29.21) 63(-2.525,-31.75) 64(2.525,-31.75) 65(-2.525,-34.29) 66(2.525,-34.29) 67(-2.525,-36.83) 68(2.525,-36.83) 69(-2.525,-39.37) 70(2.525,-39.37) 71(-2.525,-41.91) 72(2.525,-41.91) 73(-2.525,-44.45) 74(2.525,-44.45) 75(-2.525,-46.99) 76(2.525,-46.99)
F.SilkS:
  lines w0.254: -4.04,47.8 -2.65,47.8 -2.65,48.37 2.65,48.37 2.65,47.8 ; -2.65,-47.8 -2.65,-48.37 2.65,-48.37 2.65,-47.8 ; -2.65,-46.18 -2.65,-45.26 ; -2.65,-43.64 -2.65,-42.72 ; -2.65,-41.1 -2.65,-40.18 ; -2.65,-38.56 -2.65,-37.64 ; -2.65,-36.02 -2.65,-35.1 ; -2.65,-33.48 -2.65,-32.56 ; -2.65,-30.94 -2.65,-30.02 ; -2.65,-28.4 -2.65,-27.48 ; -2.65,-25.86 -2.65,-24.94 ; -2.65,-23.32 -2.65,-22.4 ; -2.65,-20.78 -2.65,-19.86 ; -2.65,-18.24 -2.65,-17.32 ; -2.65,-15.7 -2.65,-14.78 ; -2.65,-13.16 -2.65,-12.24 ; -2.65,-10.62 -2.65,-9.7 ; -2.65,-8.08 -2.65,-7.16 ; -2.65,-5.54 -2.65,-4.62 ; -2.65,-3 -2.65,-2.08 ; -2.65,-0.46 -2.65,0.46 ; -2.65,2.08 -2.65,3 ; -2.65,4.62 -2.65,5.54 ; -2.65,7.16 -2.65,8.08 ; -2.65,9.7 -2.65,10.62 ; -2.65,12.24 -2.65,13.16 ; -2.65,14.78 -2.65,15.7 ; -2.65,17.32 -2.65,18.24 ; -2.65,19.86 -2.65,20.78 ; -2.65,22.4 -2.65,23.32 ; -2.65,24.94 -2.65,25.86 ; -2.65,27.48 -2.65,28.4 ; -2.65,30.02 -2.65,30.94 ; -2.65,32.56 -2.65,33.48 ; -2.65,35.1 -2.65,36.02 ; -2.65,37.64 -2.65,38.56 ; -2.65,40.18 -2.65,41.1 ; -2.65,42.72 -2.65,43.64 ; -2.65,45.26 -2.65,46.18 ; 2.65,-46.18 2.65,-45.26 ; 2.65,-43.64 2.65,-42.72 ; 2.65,-41.1 2.65,-40.18 ; 2.65,-38.56 2.65,-37.64 ; 2.65,-36.02 2.65,-35.1 ; 2.65,-33.48 2.65,-32.56 ; 2.65,-30.94 2.65,-30.02 ; 2.65,-28.4 2.65,-27.48 ; 2.65,-25.86 2.65,-24.94 ; 2.65,-23.32 2.65,-22.4 ; 2.65,-20.78 2.65,-19.86 ; 2.65,-18.24 2.65,-17.32 ; 2.65,-15.7 2.65,-14.78 ; 2.65,-13.16 2.65,-12.24 ; 2.65,-10.62 2.65,-9.7 ; 2.65,-8.08 2.65,-7.16 ; 2.65,-5.54 2.65,-4.62 ; 2.65,-3 2.65,-2.08 ; 2.65,-0.46 2.65,0.46 ; 2.65,2.08 2.65,3 ; 2.65,4.62 2.65,5.54 ; 2.65,7.16 2.65,8.08 ; 2.65,9.7 2.65,10.62 ; 2.65,12.24 2.65,13.16 ; 2.65,14.78 2.65,15.7 ; 2.65,17.32 2.65,18.24 ; 2.65,19.86 2.65,20.78 ; 2.65,22.4 2.65,23.32 ; 2.65,24.94 2.65,25.86 ; 2.65,27.48 2.65,28.4 ; 2.65,30.02 2.65,30.94 ; 2.65,32.56 2.65,33.48 ; 2.65,35.1 2.65,36.02 ; 2.65,37.64 2.65,38.56 ; 2.65,40.18 2.65,41.1 ; 2.65,42.72 2.65,43.64 ; 2.65,45.26 2.65,46.18
Top Assembly:
  drawing of 233 lines, arcs and shapes, not listed
  text "'.Designator'" at 0.84,-4.047 h1
Top Courtyard:
  lines w0.254: -5.87,-48.76 5.88,-48.76 5.88,48.76 -5.87,48.76 -5.87,-48.76
Top Designator:
  text ".Designator" at -7.613,-0.508 h1.52